# EAGLE library part 691307400006 (library Wuerth_Elektronik_eiCan_Terminal_Blocks_v2.0)
WR - TBL Serie 3074 - 7.62mm Reversed Gender Vertical PCB Header , 6 pins
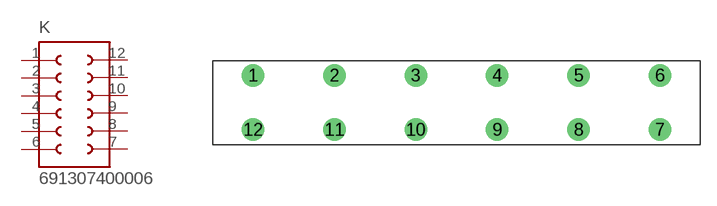
[diagram p194: symbol with the pads of 691307400006; footprint 691307400006]

Designator prefix K

## 691307400006  [691307400006]
1  1  pas
2  2  pas
3  3  pas
4  4  pas
5  5  pas
6  6  pas
7  7  pas
8  8  pas
9  9  pas
10  10  pas
11  11  pas
12  12  pas

## Footprint 691307400006 (pad centres in mm)
WR - TBL Serie 3074 - 7.62mm Reversed Gender Vertical PCB Header , 6 pins
drill 1.4 round: 1 -38.1,0; 2 -30.48,0; 3 -22.86,0; 4 -15.24,0; 5 -7.62,0; 6 0,0; 7 0,-5.08; 8 -7.62,-5.08; 9 -15.24,-5.08; 10 -22.86,-5.08; 11 -30.48,-5.08; 12 -38.1,-5.08